# Altium schematic symbol library Generic Power Management Chips.SchLib: 5 symbols
Pins are listed as number, name and electrical type; pins without a type are passive.

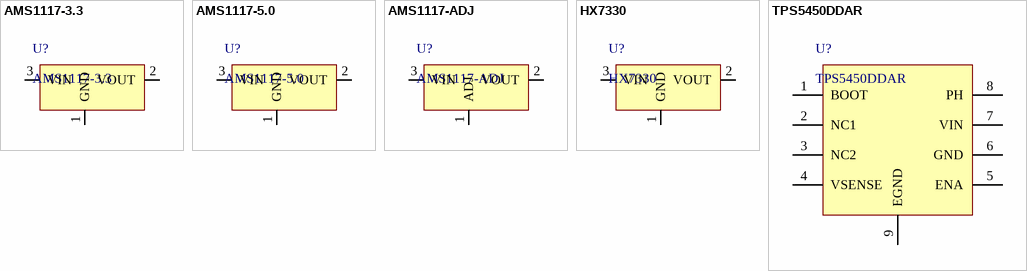
[diagram p0: symbols AMS1117-3.3 to TPS5450DDAR]

## AMS1117-3.3
designator U?
Manufacturer: UMW; Current: 1A; Sku: C347222; PartNumber: AMS1117-3.3; SupplierContact: https://item.szlcsc.com/323882.html; Datasheet: https://atta.szlcsc.com/upload/public/pdf/source/20181213/C347222_80E50A5A994E0C04B15C15FC782E97B4.pdf; Price/1K: 0.16911
footprint SOT-223-3_TabPin2 (SOT223, 4-Leads, Body 6.50x7.00mm (avg), Pitch 2.30mm, IPC Medium Density)
pins: 1 GND, 2 VOUT, 3 VIN, 4 GND hidden to GND

## AMS1117-5.0
designator U?
Manufacturer: UMW; Current: 1A; Sku: C347223; PartNumber: AMS1117-5.0; SupplierContact: https://item.szlcsc.com/323883.html; Datasheet: https://atta.szlcsc.com/upload/public/pdf/source/20181213/C347223_0BE2B698C4D09A2D316464DFECA0C193.pdf; Price/1K: 0.169305
footprint SOT-223-3_TabPin2 (SOT223, 4-Leads, Body 6.50x7.00mm (avg), Pitch 2.30mm, IPC Medium Density)
pins: 1 GND, 2 VOUT, 3 VIN, 4 GND hidden to GND

## AMS1117-ADJ
designator U?
Manufacturer: UMW; Current: 1A; Sku: C347224; PartNumber: AMS1117-ADJ; SupplierContact: https://item.szlcsc.com/323884.html; Datasheet: https://atta.szlcsc.com/upload/public/pdf/source/20181213/C347224_C94A4BC8F227BF0DF8B0A0098DACCF48.pdf; Price/1K: 0.16966
footprint SOT-223-3_TabPin2 (SOT223, 4-Leads, Body 6.50x7.00mm (avg), Pitch 2.30mm, IPC Medium Density)
pins: 1 ADJ, 2 VOUT, 3 VIN, 4 GND hidden to GND

## HX7330
designator U?
Manufacturer: HX; Current: 250mA; Sku: C296171; PartNumber: HX7330; SupplierContact: https://item.szlcsc.com/280591.html; Datasheet: https://atta.szlcsc.com/upload/public/pdf/source/20181113/C296171_4D644BB56681228480F54B2632730358.pdf; Price/1K: 0.158714
footprint SOT-23
pins: 1 GND, 2 VOUT, 3 VIN, 4 GND hidden to GND

## TPS5450DDAR
designator U?
Manufacturer: TI; Sku: C114425; Datasheet: https://atta.szlcsc.com/upload/public/pdf/source/20170620/1497944765773.pdf; Price/1K: 5.7; SupplierContact: https://item.szlcsc.com/115667.html; PartNumber: TPS5450DDAR
footprint HSOP-8-1EP_3.9x4.9mm_P1.27mm_EP2.41x3.1mm_ThermalVias (SOP, 8-Leads, Body 4.90x3.90mm, Pitch 1.27mm, Thermal Pad 3.00x2.49mm, IPC Medium Density)
pins: 1 BOOT, 2 NC1, 3 NC2, 4 VSENSE, 5 ENA, 6 GND, 7 VIN, 8 PH, 9 EGND